# Altium integrated library Lattice ORCA Series 4.IntLib: 36 symbols (part 6 of 9)
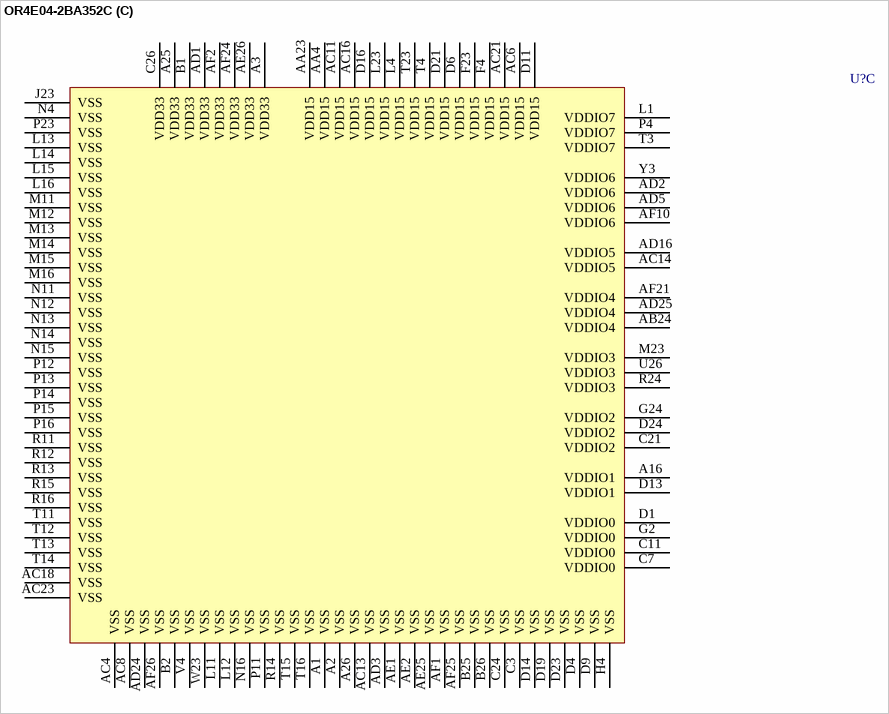
[diagram p123: symbol OR4E04-2BA352C]

## OR4E04-2BA352C
designator U?
ORCA Series 4 FPGA: 1.5 V, Commercial Grade, 466 I/Os.; Published: 21-May-2003; LatestRevisionDate: 13-Apr-2006; LatestRevisionNote: IPC-7351 Footprint Added.; DatasheetVersion: Aug-2003; PackageVersion: pkg_32, Aug-2005; PackageReference: BGA388; Publisher: Altium Limited; PackageDescription: 388-Ball Ball Grid Array (BGA388); ComponentLink1Description: Manufacturer Link; ComponentLink1URL: http://www.latticesemi.com/products/fpga/orca/orca4/index.cfm; ComponentLink2Description: Datasheet; ComponentLink2URL: http://www.latticesemi.com/account/_download.cfm?AMID=3970; ComponentLink3Description: Lattice Login; ComponentLink3URL: http://www.latticesemi.com/account/login.cfm
footprint BGA388 (BGA, 388-Leads, Body 35x35mm, Pitch 1.27mm)
3D model OR4E04-BGA388 (388-Ball Ball Grid Array (BGA388))
part A pins: AA1 PL34C/VREF_6_02 (io), AA2 PL33D/D9 (io), AA3 PL36B/VREF_6_03 (io), AB1 PL35A/D12 (io), AB2 PL35B/D11 (io), AB4 PL39D/PLL_CK7C/HPPLL (io), AC1 PL39C/PLL_CK7T/HPPLL (io), AC2 PL36A/D13 (io), AC5 PB5D/D14 (io), AC7 PB7C/D17 (io), AC9 PB10D/D22 (io), AC10 PB14C/VREF_6_10 (io), AC12 PB18C/VREF_5_01 (io), AC15 PB24C (io), AC17 PB25D/VREF_5_04 (io), AC19 PB30D (io), AC20 PB32D (io), AC22 PB35D/VREF_4_03 (io), AD4 PB4A/VREF_6_05 (io), AD6 PB7D/D18 (io), AD7 PB9D/D21 (io), AD8 PB11D/D24 (io), AD9 PB13D/D27 (io), AD10 PB15C/D29 (io), AD11 PB17C (io), AD12 PB19C/PBCK0T (io), AD13 PB20D (io), AD14 PB21D/VREF_5_03 (io), AD15 PB23C/PBCK1T (io), AD17 PB26D/VREF_5_05 (io), AD18 PB28D/VREF_5_06 (io), AD19 PB31D (io), AD20 PB33C (io), AD21 PB35A (io), AD22 PB36D (io), AD23 PB37D/PLL_CK5C/PPLL (io), AE3 PB2A/DP2 (io), AE4 PB2D/PLL_CK6C/PPLL (io), AE5 PB5C/VREF_6_06 (io), AE6 PB6D/D16 (io), AE7 PB8D/D19 (io), AE8 PB10C/VREF_6_08 (io), AE9 PB12C/VREF_6_09 (io), AE10 PB13C/D26 (io), AE11 PB14D/D28 (io), AE12 PB16C/VREF_6_11 (io), AE13 PB17D (io), AE14 PB19D/PBCK0C (io), AE15 PB21C (io), AE16 PB22D (io), AE17 PB24D (io), AE18 PB26C (io), AE19 PB27D (io), AE20 PB30C (io), AE21 PB32C (io), AE22 PB33D/VREF_4_02 (io), AE23 PB35C (io), AE24 PB37C/PLL_CK5T/PPLL (io), AF3 PB2C/PLL_CK6T/PPLL (io), AF4 PB4B/DP3 (io), AF5 PB6C/D15 (io), AF6 PB8C/VREF_6_07 (io), AF7 PB9C/D20 (io), AF8 PB11C/D23 (io), AF9 PB12D/D25 (io), AF11 PB15D/D30 (io), AF12 PB16D/D31 (io), AF13 PB18D (io), AF14 PB20C/VREF_5_02 (io), AF15 PB22C (io), AF16 PB23D/PBCK1C (io), AF17 PB25C (io), AF18 PB27C (io), AF19 PB28C (io), AF20 PB31C/VREF_4_01 (io), AF22 PB34C (io), AF23 PB36C (io), E1 PL4C/D6 (io), E2 PL2D/PLL_CK0C/HPPLL (io), E3 PL4D/D5 (io), E4 PL2C/PLL_CK0T/HPPLL (io), F1 PL6C/D7 (io), F2 PL5D/HDC (io), F3 PL6D/TESTCFG (io), G1 PL7D/VREF_0_09 (io), G3 PL7C/A17/PPC_A31 (io), G4 PL5C/~{LDC} (io), H1 PL10D/~{INIT} (io), H2 PL8D/~{CS0} (io), H3 PL10C/DOUT (io), J1 PL11C/A16/PPC_A30 (io), J2 PL11D/VREF_0_10 (io), J3 PL12C/A14/PPC_A28 (io), J4 PL8C/CS1 (io), K1 PL13D/VREF_7_01 (io), K2 PL12D/A15/PPC_A29 (io), K3 PL14C/VREF_7_02 (io), K4 PL13C/D4 (io), L2 PL14D/RDY/~{BUSY}/RCLK (io), L3 PL17D/A11/PPC_A25 (io), M1 PL15C/A12/PPC_A26 (io), M2 PL15D/A13/PPC_A27 (io), M3 PL20D/PLCK0C (io), M4 PL19D/~{RD/MPI_STRB} (io), N1 PL19C/VREF_7_04 (io), N2 PL17C/VREF_7_03 (io), N3 PL21C/A9/PPC_A23 (io), P1 PL21D/A10/PPC_A24 (io), P2 PL20C/PLCK0T (io), P3 PL22C/VREF_7_05 (io), R1 PL24D/PLCK1C (io), R2 PL22D/A8/PPC_A22 (io), R3 PL25D/VREF_7_06 (io), R4 PL26D/A6/PPC_A20 (io), T1 PL25C/A7/PPC_A21 (io), T2 PL24C/PLCK1T (io), U1 PL27D/~{WR}/MPI_RW (io), U2 PL26C/A5/PPC_A19 (io), U3 PL28C/VREF_7_08 (io), U4 PL27C/VREF_7_07 (io), V1 PL29D/A3/PPC_A17 (io), V2 PL28D/A4/PPC_A18 (io), V3 PL30C/A0/PPC_A14 (io), W1 PL30D/A1/PPC_A15 (io), W2 PL29C/A2/PPC_A16 (io), W3 PL32C/VREF_6_01 (io), W4 PL31C/DP1 (io), Y1 PL32D/D8 (io), Y2 PL31D/DP0 (io), Y4 PL33C/D10 (io)
part B pins: A4 PT2C/PLL_CK1T/PPLL (io), A5 PT5C/D2 (io), A6 PT6C/D3 (io), A7 PT8C/TMS (io), A8 PT11B/VREF_0_02 (io), A9 PT11D/M2 (io), A10 PT12D/M0 (io), A11 PT14C/VREF_1_06 (io), A12 PT16D/VREF_1_05 (io), A13 PT18D/PTCK1C (io), A14 PT21C (io), A15 PT24C/VREF_1_03 (io), A17 PT26D (io), A18 PT27C (io), A19 PT28D (io), A20 PT31D (io), A21 PT32D (io), A22 PT34C (io), A23 PT36C (io), A24 PT37D/PLL_CK2C/PPLL (io), AA24 PR34D (io), AA25 PR35D (io), AA26 PR33C (io), AB3 PTEMP, AB23 PR36B (io), AB25 PR36A (io), AB26 PR35C/VREF_4_06 (io), AC3 LVDS_R (io), AC24 PR37A/VREF_4_05 (io), AC25 PR38B/PLL_CK4C/PLL2 (io), AC26 PR37B (io), AD26 PR38A/PLL_CK4T/PLL2 (io), B3 CCLK (io), B4 PT4C/TCK (io), B5 PT5D/D1 (io), B6 PT7C/A19/MPI_TSZ1 (io), B7 PT9D/VREF_0_03 (io), B8 PT11C/M3 (io), B9 PT12B/MPI_CLK (io), B10 PT13C/~{MPI_ACK} (io), B11 PT16C (io), B12 PT17D/PTCK0C (io), B13 PT19C/VREF_1_04 (io), B14 PT23C (io), B15 PT24D (io), B16 PT25D (io), B17 PT27B (io), B18 PT27D/VREF_1_01 (io), B19 PT29D (io), B20 PT32C (io), B21 PT33D (io), B22 PT35B (io), B23 PT37C/PLL_CK2T/PPLL (io), B24 PLL_VF, C1 ~{RESET} (in), C2 RD_DATA/TDO (out), C4 DONE (io), C5 ~{CFG_IRQ/MPI_IRQ} (out), C6 PT4D/TDI (io), C8 PT7D/A20/~{MPI_BDIP} (io), C9 PT11A/~{MPI_TEA} (io), C10 PT12A/A21/~{MPI_BURST} (io), C12 PT14D (io), C13 PT17C/PTCK0T (io), C14 PT18C/PTCK1T (io), C15 PT19D (io), C16 PT23D (io), C17 PT25C (io), C18 PT27A (io), C19 PT28C (io), C20 PT31C/VREF_2_08 (io), C22 PT34D/VREF_2_06 (io), C23 PT36D/VREF_2_05 (io), C25 PR3D/PLL_CK3C/PLL1 (io), D2 ~{RD_CFG} (in), D3 ~{PRGM} (in), D5 PT2D/PLL_CK1C/PPLL (io), D7 PT6D/A18/MPI_TSZ0 (io), D8 PT8D/D0 (io), D10 PT12C/M1 (io), D12 PT13D/~{MPI_RTRY} (io), D15 PT21D (io), D17 PT26C/VREF_1_02 (io), D18 PT29C (io), D20 PT33C/VREF_2_07 (io), D22 PT35A (io), D25 PR5B/VREF_2_03 (io), D26 PR4D (io), E23 PR4C (io), E24 PR3C/PLL_CK3T/PLL1 (io), E25 PR6A/VREF_2_02 (io), E26 PR6B (io), F24 PR5A (io), F25 PR9D (io), F26 PR7B (io), G23 PR7A (io), G25 PR11D/VREF_2_01 (io), G26 PR10D (io), H23 PR10C (io), H24 PR9C (io), H25 PR12C/VREF_3_08 (io), H26 PR12D (io), J24 PR11C (io), J25 PR14D (io), J26 PR13D (io), K23 PR14C/VREF_3_07 (io), K24 PR13C (io), K25 PR15A (io), K26 PR14B (io), L24 PR15B (io), L25 PR17D/VREF_3_06 (io), L26 PR16D (io), M24 PR16C (io), M25 PR19C/VREF_3_05 (io), M26 PR17C (io), N23 PR21D (io), N24 PR19D (io), N25 PR21C (io), N26 PR20C/PRCK0T (io), P24 PR20D/PRCK0C (io), P25 PR23D/PRCK1C (io), P26 PR22D/VREF_3_04 (io), R23 PR22C (io), R25 PR25C (io), R26 PR25D/VREF_3_03 (io), T24 PR23C/PRCK1T (io), T25 PR26B/VREF_3_02 (io), T26 PR25B (io), U23 PR26A (io), U24 PR25A (io), U25 PR28C/VREF_3_01 (io), V23 PR31D/VREF_4_08 (io), V24 PR28D (io), V25 PR29C (io), V26 PR29D (io), W24 PR30D (io), W25 PR31C (io), W26 PR30C (io), Y23 PR34C (io), Y24 PR32D (io), Y25 PR33D/VREF_4_07 (io), Y26 PR32C (io)
part C pins: A1 VSS (power), A2 VSS (power), A3 VDD33 (power), A16 VDDIO1 (power), A25 VDD33 (power), A26 VSS (power), AA4 VDD15 (power), AA23 VDD15 (power), AB24 VDDIO4 (power), AC4 VSS (power), AC6 VDD15 (power), AC8 VSS (power), AC11 VDD15 (power), AC13 VSS (power), AC14 VDDIO5 (power), AC16 VDD15 (power), AC18 VSS (power), AC21 VDD15 (power), AC23 VSS (power), AD1 VDD33 (power), AD2 VDDIO6 (power), AD3 VSS (power), AD5 VDDIO6 (power), AD16 VDDIO5 (power), AD24 VSS (power), AD25 VDDIO4 (power), AE1 VSS (power), AE2 VSS (power), AE25 VSS (power), AE26 VDD33 (power), AF1 VSS (power), AF2 VDD33 (power), AF10 VDDIO6 (power), AF21 VDDIO4 (power), AF24 VDD33 (power), AF25 VSS (power), AF26 VSS (power), B1 VDD33 (power), B2 VSS (power), B25 VSS (power), B26 VSS (power), C3 VSS (power), C7 VDDIO0 (power), C11 VDDIO0 (power), C21 VDDIO2 (power), C24 VSS (power), C26 VDD33 (power), D1 VDDIO0 (power), D4 VSS (power), D6 VDD15 (power), D9 VSS (power), D11 VDD15 (power), D13 VDDIO1 (power), D14 VSS (power), D16 VDD15 (power), D19 VSS (power), D21 VDD15 (power), D23 VSS (power), D24 VDDIO2 (power), F4 VDD15 (power), F23 VDD15 (power), G2 VDDIO0 (power), G24 VDDIO2 (power), H4 VSS (power), J23 VSS (power), L1 VDDIO7 (power), L4 VDD15 (power), L11 VSS (power), L12 VSS (power), L13 VSS (power), L14 VSS (power), L15 VSS (power), L16 VSS (power), L23 VDD15 (power), M11 VSS (power), M12 VSS (power), M13 VSS (power), M14 VSS (power), M15 VSS (power), M16 VSS (power), M23 VDDIO3 (power), N4 VSS (power), N11 VSS (power), N12 VSS (power), N13 VSS (power), N14 VSS (power), N15 VSS (power), N16 VSS (power), P4 VDDIO7 (power), P11 VSS (power), P12 VSS (power), P13 VSS (power), P14 VSS (power), P15 VSS (power), P16 VSS (power), P23 VSS (power), R11 VSS (power), R12 VSS (power), R13 VSS (power), R14 VSS (power), R15 VSS (power), R16 VSS (power), R24 VDDIO3 (power), T3 VDDIO7 (power), T4 VDD15 (power), T11 VSS (power), T12 VSS (power), T13 VSS (power), T14 VSS (power), T15 VSS (power), T16 VSS (power), T23 VDD15 (power), U26 VDDIO3 (power), V4 VSS (power), W23 VSS (power), Y3 VDDIO6 (power)

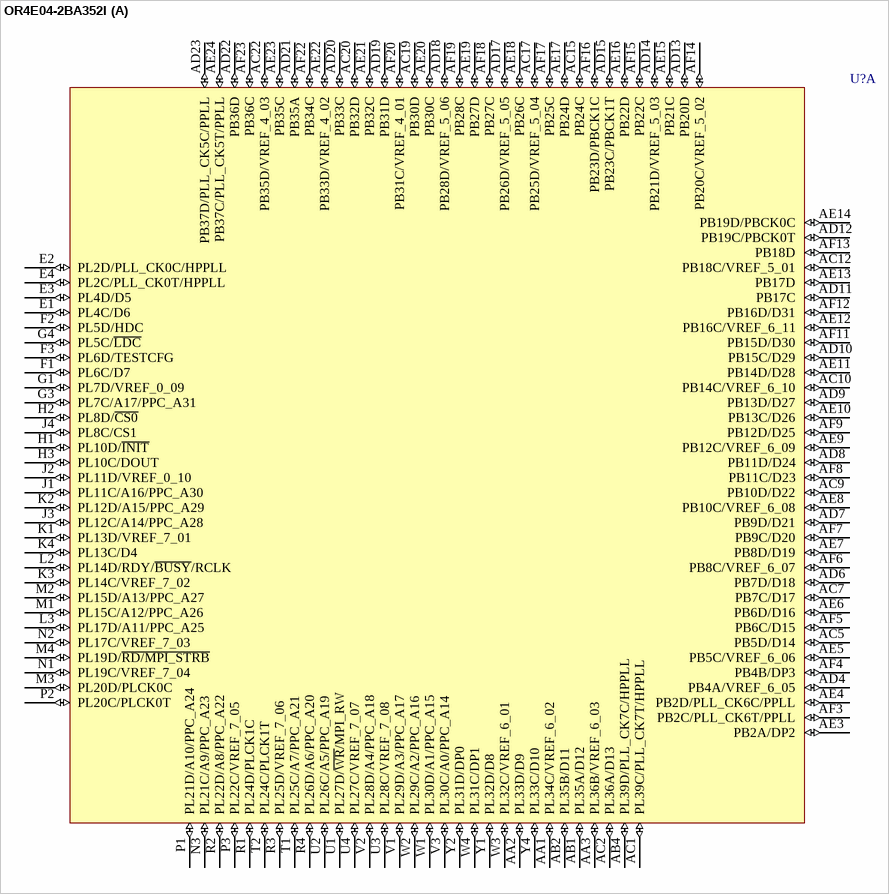
[diagram p69: symbol OR4E04-2BA352I]

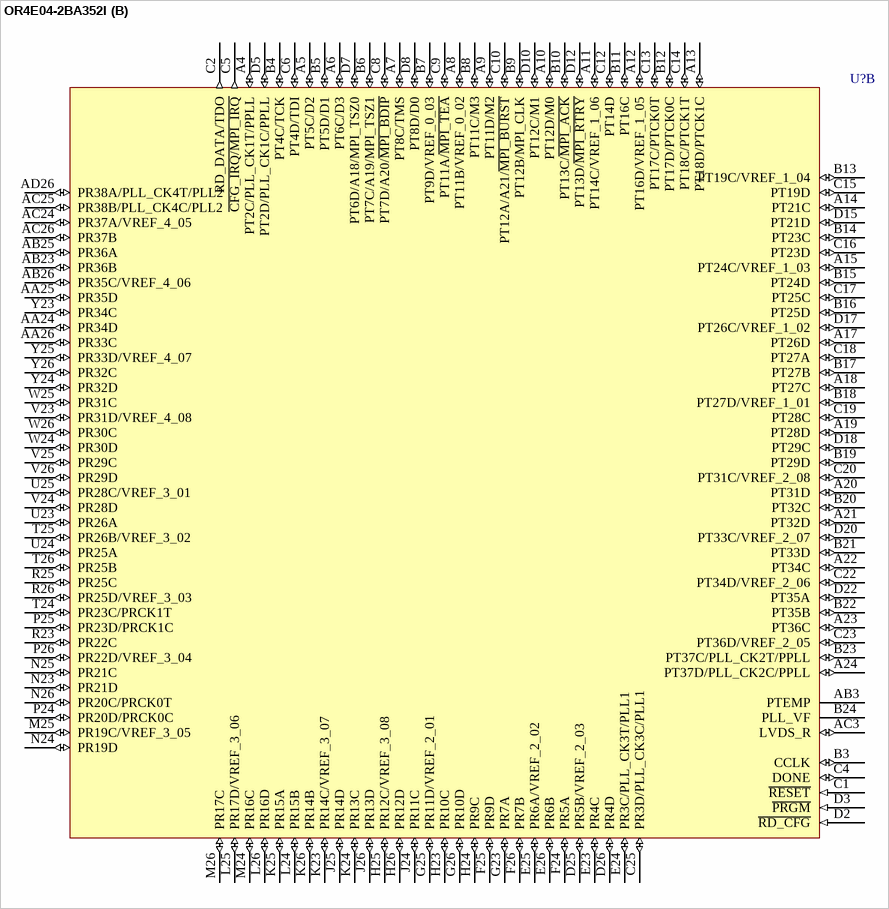
[diagram p70: symbol OR4E04-2BA352I]

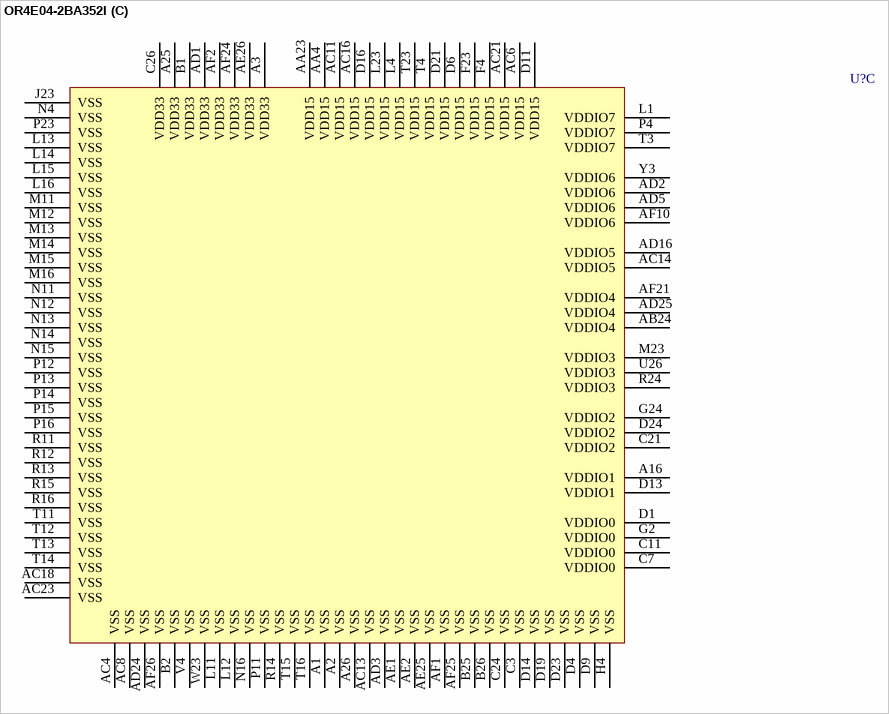
[diagram p71: symbol OR4E04-2BA352I]

## OR4E04-2BA352I
designator U?
ORCA Series 4 FPGA: 1.5 V, Industrial Grade, 466 I/Os.; Published: 21-May-2003; LatestRevisionDate: 13-Apr-2006; LatestRevisionNote: IPC-7351 Footprint Added.; DatasheetVersion: Aug-2003; PackageVersion: pkg_32, Aug-2005; PackageReference: BGA388; Publisher: Altium Limited; PackageDescription: 388-Ball Ball Grid Array (BGA388); ComponentLink1Description: Manufacturer Link; ComponentLink1URL: http://www.latticesemi.com/products/fpga/orca/orca4/index.cfm; ComponentLink2Description: Datasheet; ComponentLink2URL: http://www.latticesemi.com/account/_download.cfm?AMID=3970; ComponentLink3Description: Lattice Login; ComponentLink3URL: http://www.latticesemi.com/account/login.cfm
footprint BGA388 (BGA, 388-Leads, Body 35x35mm, Pitch 1.27mm)
3D model OR4E04-BGA388 (388-Ball Ball Grid Array (BGA388))
part A pins: AA1 PL34C/VREF_6_02 (io), AA2 PL33D/D9 (io), AA3 PL36B/VREF_6_03 (io), AB1 PL35A/D12 (io), AB2 PL35B/D11 (io), AB4 PL39D/PLL_CK7C/HPPLL (io), AC1 PL39C/PLL_CK7T/HPPLL (io), AC2 PL36A/D13 (io), AC5 PB5D/D14 (io), AC7 PB7C/D17 (io), AC9 PB10D/D22 (io), AC10 PB14C/VREF_6_10 (io), AC12 PB18C/VREF_5_01 (io), AC15 PB24C (io), AC17 PB25D/VREF_5_04 (io), AC19 PB30D (io), AC20 PB32D (io), AC22 PB35D/VREF_4_03 (io), AD4 PB4A/VREF_6_05 (io), AD6 PB7D/D18 (io), AD7 PB9D/D21 (io), AD8 PB11D/D24 (io), AD9 PB13D/D27 (io), AD10 PB15C/D29 (io), AD11 PB17C (io), AD12 PB19C/PBCK0T (io), AD13 PB20D (io), AD14 PB21D/VREF_5_03 (io), AD15 PB23C/PBCK1T (io), AD17 PB26D/VREF_5_05 (io), AD18 PB28D/VREF_5_06 (io), AD19 PB31D (io), AD20 PB33C (io), AD21 PB35A (io), AD22 PB36D (io), AD23 PB37D/PLL_CK5C/PPLL (io), AE3 PB2A/DP2 (io), AE4 PB2D/PLL_CK6C/PPLL (io), AE5 PB5C/VREF_6_06 (io), AE6 PB6D/D16 (io), AE7 PB8D/D19 (io), AE8 PB10C/VREF_6_08 (io), AE9 PB12C/VREF_6_09 (io), AE10 PB13C/D26 (io), AE11 PB14D/D28 (io), AE12 PB16C/VREF_6_11 (io), AE13 PB17D (io), AE14 PB19D/PBCK0C (io), AE15 PB21C (io), AE16 PB22D (io), AE17 PB24D (io), AE18 PB26C (io), AE19 PB27D (io), AE20 PB30C (io), AE21 PB32C (io), AE22 PB33D/VREF_4_02 (io), AE23 PB35C (io), AE24 PB37C/PLL_CK5T/PPLL (io), AF3 PB2C/PLL_CK6T/PPLL (io), AF4 PB4B/DP3 (io), AF5 PB6C/D15 (io), AF6 PB8C/VREF_6_07 (io), AF7 PB9C/D20 (io), AF8 PB11C/D23 (io), AF9 PB12D/D25 (io), AF11 PB15D/D30 (io), AF12 PB16D/D31 (io), AF13 PB18D (io), AF14 PB20C/VREF_5_02 (io), AF15 PB22C (io), AF16 PB23D/PBCK1C (io), AF17 PB25C (io), AF18 PB27C (io), AF19 PB28C (io), AF20 PB31C/VREF_4_01 (io), AF22 PB34C (io), AF23 PB36C (io), E1 PL4C/D6 (io), E2 PL2D/PLL_CK0C/HPPLL (io), E3 PL4D/D5 (io), E4 PL2C/PLL_CK0T/HPPLL (io), F1 PL6C/D7 (io), F2 PL5D/HDC (io), F3 PL6D/TESTCFG (io), G1 PL7D/VREF_0_09 (io), G3 PL7C/A17/PPC_A31 (io), G4 PL5C/~{LDC} (io), H1 PL10D/~{INIT} (io), H2 PL8D/~{CS0} (io), H3 PL10C/DOUT (io), J1 PL11C/A16/PPC_A30 (io), J2 PL11D/VREF_0_10 (io), J3 PL12C/A14/PPC_A28 (io), J4 PL8C/CS1 (io), K1 PL13D/VREF_7_01 (io), K2 PL12D/A15/PPC_A29 (io), K3 PL14C/VREF_7_02 (io), K4 PL13C/D4 (io), L2 PL14D/RDY/~{BUSY}/RCLK (io), L3 PL17D/A11/PPC_A25 (io), M1 PL15C/A12/PPC_A26 (io), M2 PL15D/A13/PPC_A27 (io), M3 PL20D/PLCK0C (io), M4 PL19D/~{RD/MPI_STRB} (io), N1 PL19C/VREF_7_04 (io), N2 PL17C/VREF_7_03 (io), N3 PL21C/A9/PPC_A23 (io), P1 PL21D/A10/PPC_A24 (io), P2 PL20C/PLCK0T (io), P3 PL22C/VREF_7_05 (io), R1 PL24D/PLCK1C (io), R2 PL22D/A8/PPC_A22 (io), R3 PL25D/VREF_7_06 (io), R4 PL26D/A6/PPC_A20 (io), T1 PL25C/A7/PPC_A21 (io), T2 PL24C/PLCK1T (io), U1 PL27D/~{WR}/MPI_RW (io), U2 PL26C/A5/PPC_A19 (io), U3 PL28C/VREF_7_08 (io), U4 PL27C/VREF_7_07 (io), V1 PL29D/A3/PPC_A17 (io), V2 PL28D/A4/PPC_A18 (io), V3 PL30C/A0/PPC_A14 (io), W1 PL30D/A1/PPC_A15 (io), W2 PL29C/A2/PPC_A16 (io), W3 PL32C/VREF_6_01 (io), W4 PL31C/DP1 (io), Y1 PL32D/D8 (io), Y2 PL31D/DP0 (io), Y4 PL33C/D10 (io)
part B pins: A4 PT2C/PLL_CK1T/PPLL (io), A5 PT5C/D2 (io), A6 PT6C/D3 (io), A7 PT8C/TMS (io), A8 PT11B/VREF_0_02 (io), A9 PT11D/M2 (io), A10 PT12D/M0 (io), A11 PT14C/VREF_1_06 (io), A12 PT16D/VREF_1_05 (io), A13 PT18D/PTCK1C (io), A14 PT21C (io), A15 PT24C/VREF_1_03 (io), A17 PT26D (io), A18 PT27C (io), A19 PT28D (io), A20 PT31D (io), A21 PT32D (io), A22 PT34C (io), A23 PT36C (io), A24 PT37D/PLL_CK2C/PPLL (io), AA24 PR34D (io), AA25 PR35D (io), AA26 PR33C (io), AB3 PTEMP, AB23 PR36B (io), AB25 PR36A (io), AB26 PR35C/VREF_4_06 (io), AC3 LVDS_R (io), AC24 PR37A/VREF_4_05 (io), AC25 PR38B/PLL_CK4C/PLL2 (io), AC26 PR37B (io), AD26 PR38A/PLL_CK4T/PLL2 (io), B3 CCLK (io), B4 PT4C/TCK (io), B5 PT5D/D1 (io), B6 PT7C/A19/MPI_TSZ1 (io), B7 PT9D/VREF_0_03 (io), B8 PT11C/M3 (io), B9 PT12B/MPI_CLK (io), B10 PT13C/~{MPI_ACK} (io), B11 PT16C (io), B12 PT17D/PTCK0C (io), B13 PT19C/VREF_1_04 (io), B14 PT23C (io), B15 PT24D (io), B16 PT25D (io), B17 PT27B (io), B18 PT27D/VREF_1_01 (io), B19 PT29D (io), B20 PT32C (io), B21 PT33D (io), B22 PT35B (io), B23 PT37C/PLL_CK2T/PPLL (io), B24 PLL_VF, C1 ~{RESET} (in), C2 RD_DATA/TDO (out), C4 DONE (io), C5 ~{CFG_IRQ/MPI_IRQ} (out), C6 PT4D/TDI (io), C8 PT7D/A20/~{MPI_BDIP} (io), C9 PT11A/~{MPI_TEA} (io), C10 PT12A/A21/~{MPI_BURST} (io), C12 PT14D (io), C13 PT17C/PTCK0T (io), C14 PT18C/PTCK1T (io), C15 PT19D (io), C16 PT23D (io), C17 PT25C (io), C18 PT27A (io), C19 PT28C (io), C20 PT31C/VREF_2_08 (io), C22 PT34D/VREF_2_06 (io), C23 PT36D/VREF_2_05 (io), C25 PR3D/PLL_CK3C/PLL1 (io), D2 ~{RD_CFG} (in), D3 ~{PRGM} (in), D5 PT2D/PLL_CK1C/PPLL (io), D7 PT6D/A18/MPI_TSZ0 (io), D8 PT8D/D0 (io), D10 PT12C/M1 (io), D12 PT13D/~{MPI_RTRY} (io), D15 PT21D (io), D17 PT26C/VREF_1_02 (io), D18 PT29C (io), D20 PT33C/VREF_2_07 (io), D22 PT35A (io), D25 PR5B/VREF_2_03 (io), D26 PR4D (io), E23 PR4C (io), E24 PR3C/PLL_CK3T/PLL1 (io), E25 PR6A/VREF_2_02 (io), E26 PR6B (io), F24 PR5A (io), F25 PR9D (io), F26 PR7B (io), G23 PR7A (io), G25 PR11D/VREF_2_01 (io), G26 PR10D (io), H23 PR10C (io), H24 PR9C (io), H25 PR12C/VREF_3_08 (io), H26 PR12D (io), J24 PR11C (io), J25 PR14D (io), J26 PR13D (io), K23 PR14C/VREF_3_07 (io), K24 PR13C (io), K25 PR15A (io), K26 PR14B (io), L24 PR15B (io), L25 PR17D/VREF_3_06 (io), L26 PR16D (io), M24 PR16C (io), M25 PR19C/VREF_3_05 (io), M26 PR17C (io), N23 PR21D (io), N24 PR19D (io), N25 PR21C (io), N26 PR20C/PRCK0T (io), P24 PR20D/PRCK0C (io), P25 PR23D/PRCK1C (io), P26 PR22D/VREF_3_04 (io), R23 PR22C (io), R25 PR25C (io), R26 PR25D/VREF_3_03 (io), T24 PR23C/PRCK1T (io), T25 PR26B/VREF_3_02 (io), T26 PR25B (io), U23 PR26A (io), U24 PR25A (io), U25 PR28C/VREF_3_01 (io), V23 PR31D/VREF_4_08 (io), V24 PR28D (io), V25 PR29C (io), V26 PR29D (io), W24 PR30D (io), W25 PR31C (io), W26 PR30C (io), Y23 PR34C (io), Y24 PR32D (io), Y25 PR33D/VREF_4_07 (io), Y26 PR32C (io)
part C pins: A1 VSS (power), A2 VSS (power), A3 VDD33 (power), A16 VDDIO1 (power), A25 VDD33 (power), A26 VSS (power), AA4 VDD15 (power), AA23 VDD15 (power), AB24 VDDIO4 (power), AC4 VSS (power), AC6 VDD15 (power), AC8 VSS (power), AC11 VDD15 (power), AC13 VSS (power), AC14 VDDIO5 (power), AC16 VDD15 (power), AC18 VSS (power), AC21 VDD15 (power), AC23 VSS (power), AD1 VDD33 (power), AD2 VDDIO6 (power), AD3 VSS (power), AD5 VDDIO6 (power), AD16 VDDIO5 (power), AD24 VSS (power), AD25 VDDIO4 (power), AE1 VSS (power), AE2 VSS (power), AE25 VSS (power), AE26 VDD33 (power), AF1 VSS (power), AF2 VDD33 (power), AF10 VDDIO6 (power), AF21 VDDIO4 (power), AF24 VDD33 (power), AF25 VSS (power), AF26 VSS (power), B1 VDD33 (power), B2 VSS (power), B25 VSS (power), B26 VSS (power), C3 VSS (power), C7 VDDIO0 (power), C11 VDDIO0 (power), C21 VDDIO2 (power), C24 VSS (power), C26 VDD33 (power), D1 VDDIO0 (power), D4 VSS (power), D6 VDD15 (power), D9 VSS (power), D11 VDD15 (power), D13 VDDIO1 (power), D14 VSS (power), D16 VDD15 (power), D19 VSS (power), D21 VDD15 (power), D23 VSS (power), D24 VDDIO2 (power), F4 VDD15 (power), F23 VDD15 (power), G2 VDDIO0 (power), G24 VDDIO2 (power), H4 VSS (power), J23 VSS (power), L1 VDDIO7 (power), L4 VDD15 (power), L11 VSS (power), L12 VSS (power), L13 VSS (power), L14 VSS (power), L15 VSS (power), L16 VSS (power), L23 VDD15 (power), M11 VSS (power), M12 VSS (power), M13 VSS (power), M14 VSS (power), M15 VSS (power), M16 VSS (power), M23 VDDIO3 (power), N4 VSS (power), N11 VSS (power), N12 VSS (power), N13 VSS (power), N14 VSS (power), N15 VSS (power), N16 VSS (power), P4 VDDIO7 (power), P11 VSS (power), P12 VSS (power), P13 VSS (power), P14 VSS (power), P15 VSS (power), P16 VSS (power), P23 VSS (power), R11 VSS (power), R12 VSS (power), R13 VSS (power), R14 VSS (power), R15 VSS (power), R16 VSS (power), R24 VDDIO3 (power), T3 VDDIO7 (power), T4 VDD15 (power), T11 VSS (power), T12 VSS (power), T13 VSS (power), T14 VSS (power), T15 VSS (power), T16 VSS (power), T23 VDD15 (power), U26 VDDIO3 (power), V4 VSS (power), W23 VSS (power), Y3 VDDIO6 (power)

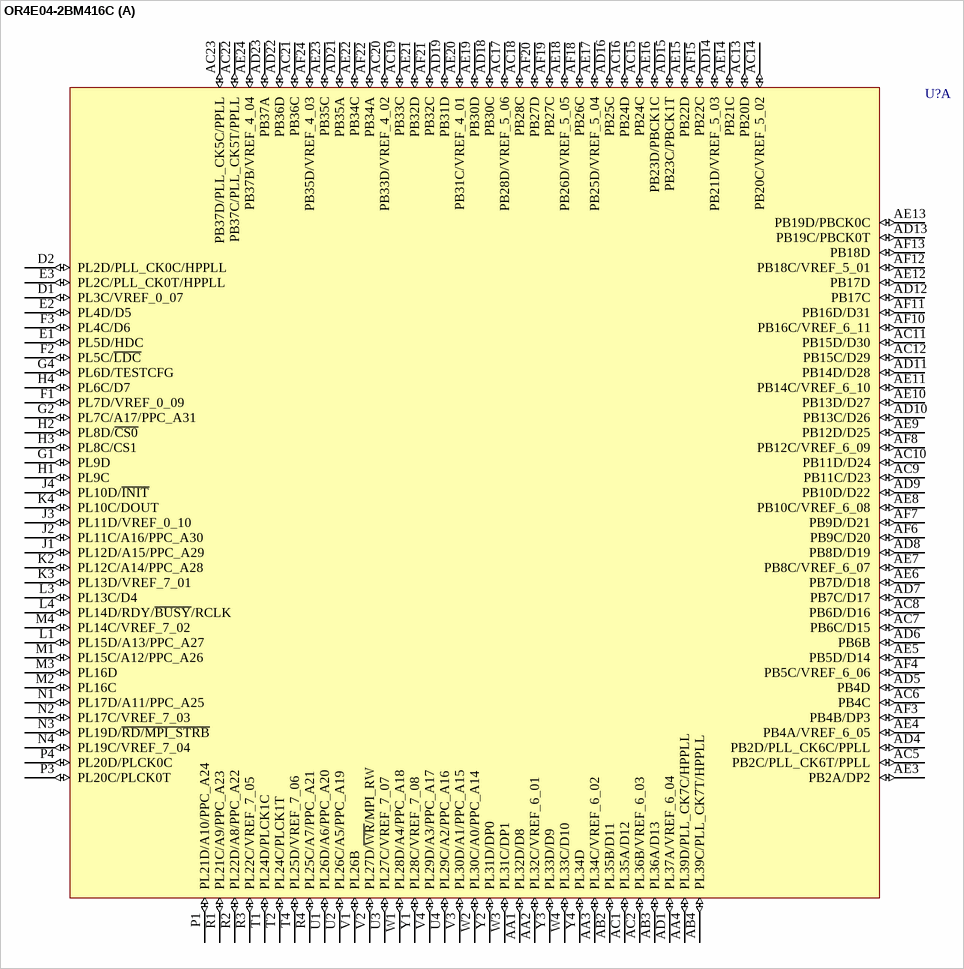
[diagram p72: symbol OR4E04-2BM416C]

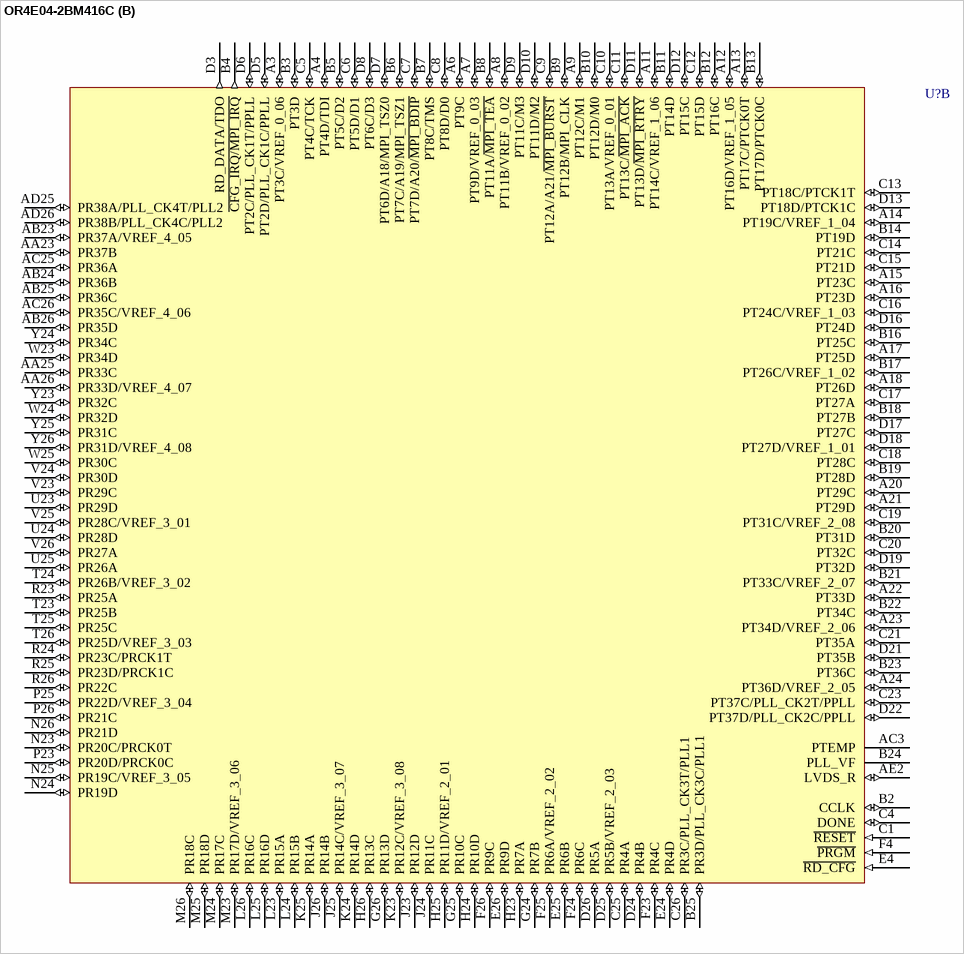
[diagram p73: symbol OR4E04-2BM416C]

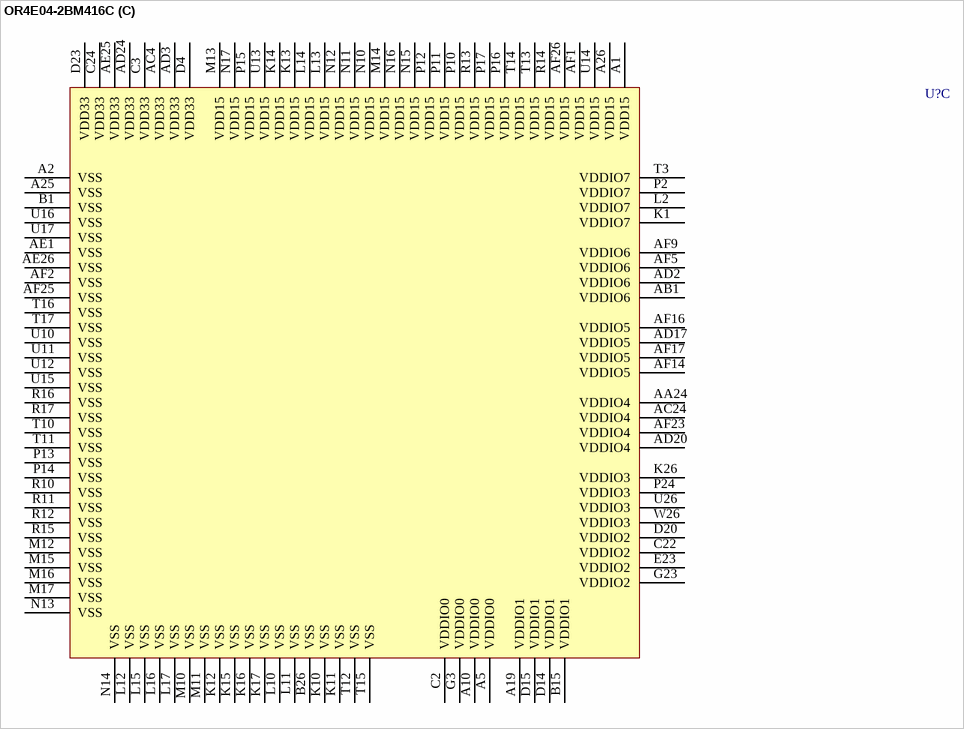
[diagram p74: symbol OR4E04-2BM416C]

## OR4E04-2BM416C
designator U?
ORCA Series 4 FPGA: 1.5 V, Commercial Grade, 466 I/Os.; Published: 21-May-2003; LatestRevisionDate: 13-Apr-2006; LatestRevisionNote: IPC-7351 Footprint Added.; DatasheetVersion: Aug-2003; PackageVersion: pkg_32, Aug-2005; PackageReference: fpBGA416; Publisher: Altium Limited; PackageDescription: 416-Ball Fine Pitch Ball Grid Array (fpBGA416); ComponentLink1Description: Manufacturer Link; ComponentLink1URL: http://www.latticesemi.com/products/fpga/orca/orca4/index.cfm; ComponentLink2Description: Datasheet; ComponentLink2URL: http://www.latticesemi.com/account/_download.cfm?AMID=3970; ComponentLink3Description: Lattice Login; ComponentLink3URL: http://www.latticesemi.com/account/login.cfm
footprint fpBGA416 (BGA, 416-Leads, Body 27x27mm, Pitch 1mm)
3D model OR4E04-fpBGA416 (416-Ball Fine Pitch Ball Grid Array (fpBGA416))
part A pins: AA1 PL32D/D8 (io), AA2 PL32C/VREF_6_01 (io), AA3 PL34C/VREF_6_02 (io), AA4 PL39D/PLL_CK7C/HPPLL (io), AB2 PL35B/D11 (io), AB3 PL36A/D13 (io), AB4 PL39C/PLL_CK7T/HPPLL (io), AC1 PL35A/D12 (io), AC2 PL36B/VREF_6_03 (io), AC5 PB2C/PLL_CK6T/PPLL (io), AC6 PB4C (io), AC7 PB6C/D15 (io), AC8 PB6D/D16 (io), AC9 PB11C/D23 (io), AC10 PB11D/D24 (io), AC11 PB15D/D30 (io), AC12 PB15C/D29 (io), AC13 PB20D (io), AC14 PB20C/VREF_5_02 (io), AC15 PB24C (io), AC16 PB24D (io), AC17 PB28D/VREF_5_06 (io), AC18 PB28C (io), AC19 PB33C (io), AC20 PB33D/VREF_4_02 (io), AC21 PB36C (io), AC22 PB37C/PLL_CK5T/PPLL (io), AC23 PB37D/PLL_CK5C/PPLL (io), AD1 PL37A/VREF_6_04 (io), AD4 PB2D/PLL_CK6C/PPLL (io), AD5 PB4D (io), AD6 PB6B (io), AD7 PB7C/D17 (io), AD8 PB8D/D19 (io), AD9 PB10D/D22 (io), AD10 PB13C/D26 (io), AD11 PB14D/D28 (io), AD12 PB17C (io), AD13 PB19C/PBCK0T (io), AD14 PB21D/VREF_5_03 (io), AD15 PB23C/PBCK1T (io), AD16 PB25C (io), AD18 PB30C (io), AD19 PB31D (io), AD21 PB35A (io), AD22 PB36D (io), AD23 PB37A (io), AE3 PB2A/DP2 (io), AE4 PB4A/VREF_6_05 (io), AE5 PB5D/D14 (io), AE6 PB7D/D18 (io), AE7 PB8C/VREF_6_07 (io), AE8 PB10C/VREF_6_08 (io), AE9 PB12D/D25 (io), AE10 PB13D/D27 (io), AE11 PB14C/VREF_6_10 (io), AE12 PB17D (io), AE13 PB19D/PBCK0C (io), AE14 PB21C (io), AE15 PB22D (io), AE16 PB23D/PBCK1C (io), AE17 PB25D/VREF_5_04 (io), AE18 PB26D/VREF_5_05 (io), AE19 PB30D (io), AE20 PB31C/VREF_4_01 (io), AE21 PB32D (io), AE22 PB34C (io), AE23 PB35C (io), AE24 PB37B/VREF_4_04 (io), AF3 PB4B/DP3 (io), AF4 PB5C/VREF_6_06 (io), AF6 PB9C/D20 (io), AF7 PB9D/D21 (io), AF8 PB12C/VREF_6_09 (io), AF10 PB16C/VREF_6_11 (io), AF11 PB16D/D31 (io), AF12 PB18C/VREF_5_01 (io), AF13 PB18D (io), AF15 PB22C (io), AF18 PB26C (io), AF19 PB27C (io), AF20 PB27D (io), AF21 PB32C (io), AF22 PB34A (io), AF24 PB35D/VREF_4_03 (io), D1 PL3C/VREF_0_07 (io), D2 PL2D/PLL_CK0C/HPPLL (io), E1 PL5D/HDC (io), E2 PL4D/D5 (io), E3 PL2C/PLL_CK0T/HPPLL (io), F1 PL7D/VREF_0_09 (io), F2 PL5C/~{LDC} (io), F3 PL4C/D6 (io), G1 PL9D (io), G2 PL7C/A17/PPC_A31 (io), G4 PL6D/TESTCFG (io), H1 PL9C (io), H2 PL8D/~{CS0} (io), H3 PL8C/CS1 (io), H4 PL6C/D7 (io), J1 PL12D/A15/PPC_A29 (io), J2 PL11C/A16/PPC_A30 (io), J3 PL11D/VREF_0_10 (io), J4 PL10D/~{INIT} (io), K2 PL12C/A14/PPC_A28 (io), K3 PL13D/VREF_7_01 (io), K4 PL10C/DOUT (io), L1 PL15D/A13/PPC_A27 (io), L3 PL13C/D4 (io), L4 PL14D/RDY/~{BUSY}/RCLK (io), M1 PL15C/A12/PPC_A26 (io), M2 PL16C (io), M3 PL16D (io), M4 PL14C/VREF_7_02 (io), N1 PL17D/A11/PPC_A25 (io), N2 PL17C/VREF_7_03 (io), N3 PL19D/~{RD/MPI_STRB} (io), N4 PL19C/VREF_7_04 (io), P1 PL21D/A10/PPC_A24 (io), P3 PL20C/PLCK0T (io), P4 PL20D/PLCK0C (io), R1 PL21C/A9/PPC_A23 (io), R2 PL22D/A8/PPC_A22 (io), R3 PL22C/VREF_7_05 (io), R4 PL25C/A7/PPC_A21 (io), T1 PL24D/PLCK1C (io), T2 PL24C/PLCK1T (io), T4 PL25D/VREF_7_06 (io), U1 PL26D/A6/PPC_A20 (io), U2 PL26C/A5/PPC_A19 (io), U3 PL27C/VREF_7_07 (io), U4 PL29C/A2/PPC_A16 (io), V1 PL26B (io), V2 PL27D/~{WR}/MPI_RW (io), V3 PL30D/A1/PPC_A15 (io), V4 PL29D/A3/PPC_A17 (io), W1 PL28D/A4/PPC_A18 (io), W2 PL30C/A0/PPC_A14 (io), W3 PL31C/DP1 (io), W4 PL33C/D10 (io), Y1 PL28C/VREF_7_08 (io), Y2 PL31D/DP0 (io), Y3 PL33D/D9 (io), Y4 PL34D (io)
part B pins: A3 PT3C/VREF_0_06 (io), A4 PT4D/TDI (io), A6 PT9C (io), A7 PT9D/VREF_0_03 (io), A8 PT11B/VREF_0_02 (io), A9 PT12C/M1 (io), A11 PT14C/VREF_1_06 (io), A12 PT16D/VREF_1_05 (io), A13 PT17C/PTCK0T (io), A14 PT19C/VREF_1_04 (io), A15 PT23C (io), A16 PT23D (io), A17 PT25D (io), A18 PT26D (io), A20 PT29C (io), A21 PT29D (io), A22 PT33D (io), A23 PT34D/VREF_2_06 (io), A24 PT36D/VREF_2_05 (io), AA23 PR37B (io), AA25 PR33C (io), AA26 PR33D/VREF_4_07 (io), AB23 PR37A/VREF_4_05 (io), AB24 PR36B (io), AB25 PR36C (io), AB26 PR35D (io), AC3 PTEMP, AC25 PR36A (io), AC26 PR35C/VREF_4_06 (io), AD25 PR38A/PLL_CK4T/PLL2 (io), AD26 PR38B/PLL_CK4C/PLL2 (io), AE2 LVDS_R (io), B2 CCLK (io), B3 PT3D (io), B4 ~{CFG_IRQ/MPI_IRQ} (out), B5 PT5C/D2 (io), B6 PT7C/A19/MPI_TSZ1 (io), B7 PT8C/TMS (io), B8 PT11A/~{MPI_TEA} (io), B9 PT12B/MPI_CLK (io), B10 PT12D/M0 (io), B11 PT14D (io), B12 PT16C (io), B13 PT17D/PTCK0C (io), B14 PT19D (io), B16 PT25C (io), B17 PT26C/VREF_1_02 (io), B18 PT27B (io), B19 PT28D (io), B20 PT31D (io), B21 PT33C/VREF_2_07 (io), B22 PT34C (io), B23 PT36C (io), B24 PLL_VF, B25 PR3D/PLL_CK3C/PLL1 (io), C1 ~{RESET} (in), C4 DONE (io), C5 PT4C/TCK (io), C6 PT5D/D1 (io), C7 PT7D/A20/~{MPI_BDIP} (io), C8 PT8D/D0 (io), C9 PT12A/A21/~{MPI_BURST} (io), C10 PT13A/VREF_0_01 (io), C11 PT13C/~{MPI_ACK} (io), C12 PT15D (io), C13 PT18C/PTCK1T (io), C14 PT21C (io), C15 PT21D (io), C16 PT24C/VREF_1_03 (io), C17 PT27A (io), C18 PT28C (io), C19 PT31C/VREF_2_08 (io), C20 PT32C (io), C21 PT35A (io), C23 PT37C/PLL_CK2T/PPLL (io), C25 PR4A (io), C26 PR3C/PLL_CK3T/PLL1 (io), D3 RD_DATA/TDO (out), D5 PT2D/PLL_CK1C/PPLL (io), D6 PT2C/PLL_CK1T/PPLL (io), D7 PT6D/A18/MPI_TSZ0 (io), D8 PT6C/D3 (io), D9 PT11C/M3 (io), D10 PT11D/M2 (io), D11 PT13D/~{MPI_RTRY} (io), D12 PT15C (io), D13 PT18D/PTCK1C (io), D16 PT24D (io), D17 PT27C (io), D18 PT27D/VREF_1_01 (io), D19 PT32D (io), D21 PT35B (io), D22 PT37D/PLL_CK2C/PPLL (io), D24 PR4B (io), D25 PR5B/VREF_2_03 (io), D26 PR5A (io), E4 ~{RD_CFG} (in), E24 PR4D (io), E25 PR6B (io), E26 PR9D (io), F4 ~{PRGM} (in), F23 PR4C (io), F24 PR6C (io), F25 PR6A/VREF_2_02 (io), F26 PR9C (io), G24 PR7B (io), G25 PR10C (io), G26 PR13D (io), H23 PR7A (io), H24 PR10D (io), H25 PR11D/VREF_2_01 (io), H26 PR13C (io), J23 PR12D (io), J24 PR11C (io), J25 PR14C/VREF_3_07 (io), J26 PR14B (io), K23 PR12C/VREF_3_08 (io), K24 PR14D (io), K25 PR14A (io), L23 PR15A (io), L24 PR15B (io), L25 PR16D (io), L26 PR16C (io), M23 PR17D/VREF_3_06 (io), M24 PR17C (io), M25 PR18D (io), M26 PR18C (io), N23 PR20C/PRCK0T (io), N24 PR19D (io), N25 PR19C/VREF_3_05 (io), N26 PR21D (io), P23 PR20D/PRCK0C (io), P25 PR22D/VREF_3_04 (io), P26 PR21C (io), R23 PR25A (io), R24 PR23C/PRCK1T (io), R25 PR23D/PRCK1C (io), R26 PR22C (io), T23 PR25B (io), T24 PR26B/VREF_3_02 (io), T25 PR25C (io), T26 PR25D/VREF_3_03 (io), U23 PR29D (io), U24 PR28D (io), U25 PR26A (io), V23 PR29C (io), V24 PR30D (io), V25 PR28C/VREF_3_01 (io), V26 PR27A (io), W23 PR34D (io), W24 PR32D (io), W25 PR30C (io), Y23 PR32C (io), Y24 PR34C (io), Y25 PR31C (io), Y26 PR31D/VREF_4_08 (io)
part C pins: A1 VDD15 (power), A2 VSS (power), A5 VDDIO0 (power), A10 VDDIO0 (power), A19 VDDIO1 (power), A25 VSS (power), A26 VDD15 (power), AA24 VDDIO4 (power), AB1 VDDIO6 (power), AC4 VDD33 (power), AC24 VDDIO4 (power), AD2 VDDIO6 (power), AD3 VDD33 (power), AD17 VDDIO5 (power), AD20 VDDIO4 (power), AD24 VDD33 (power), AE1 VSS (power), AE25 VDD33 (power), AE26 VSS (power), AF1 VDD15 (power), AF2 VSS (power), AF5 VDDIO6 (power), AF9 VDDIO6 (power), AF14 VDDIO5 (power), AF16 VDDIO5 (power), AF17 VDDIO5 (power), AF23 VDDIO4 (power), AF25 VSS (power), AF26 VDD15 (power), B1 VSS (power), B15 VDDIO1 (power), B26 VSS (power), C2 VDDIO0 (power), C3 VDD33 (power), C22 VDDIO2 (power), C24 VDD33 (power), D4 VDD33 (power), D14 VDDIO1 (power), D15 VDDIO1 (power), D20 VDDIO2 (power), D23 VDD33 (power), E23 VDDIO2 (power), G3 VDDIO0 (power), G23 VDDIO2 (power), K1 VDDIO7 (power), K10 VSS (power), K11 VSS (power), K12 VSS (power), K13 VDD15 (power), K14 VDD15 (power), K15 VSS (power), K16 VSS (power), K17 VSS (power), K26 VDDIO3 (power), L2 VDDIO7 (power), L10 VSS (power), L11 VSS (power), L12 VSS (power), L13 VDD15 (power), L14 VDD15 (power), L15 VSS (power), L16 VSS (power), L17 VSS (power), M10 VSS (power), M11 VSS (power), M12 VSS (power), M13 VDD15 (power), M14 VDD15 (power), M15 VSS (power), M16 VSS (power), M17 VSS (power), N10 VDD15 (power), N11 VDD15 (power), N12 VDD15 (power), N13 VSS (power), N14 VSS (power), N15 VDD15 (power), N16 VDD15 (power), N17 VDD15 (power), P2 VDDIO7 (power), P10 VDD15 (power), P11 VDD15 (power), P12 VDD15 (power), P13 VSS (power), P14 VSS (power), P15 VDD15 (power), P16 VDD15 (power), P17 VDD15 (power), P24 VDDIO3 (power), R10 VSS (power), R11 VSS (power), R12 VSS (power), R13 VDD15 (power), R14 VDD15 (power), R15 VSS (power), R16 VSS (power), R17 VSS (power), T3 VDDIO7 (power), T10 VSS (power), T11 VSS (power), T12 VSS (power), T13 VDD15 (power), T14 VDD15 (power), T15 VSS (power), T16 VSS (power), T17 VSS (power), U10 VSS (power), U11 VSS (power), U12 VSS (power), U13 VDD15 (power), U14 VDD15 (power), U15 VSS (power), U16 VSS (power), U17 VSS (power), U26 VDDIO3 (power), W26 VDDIO3 (power)

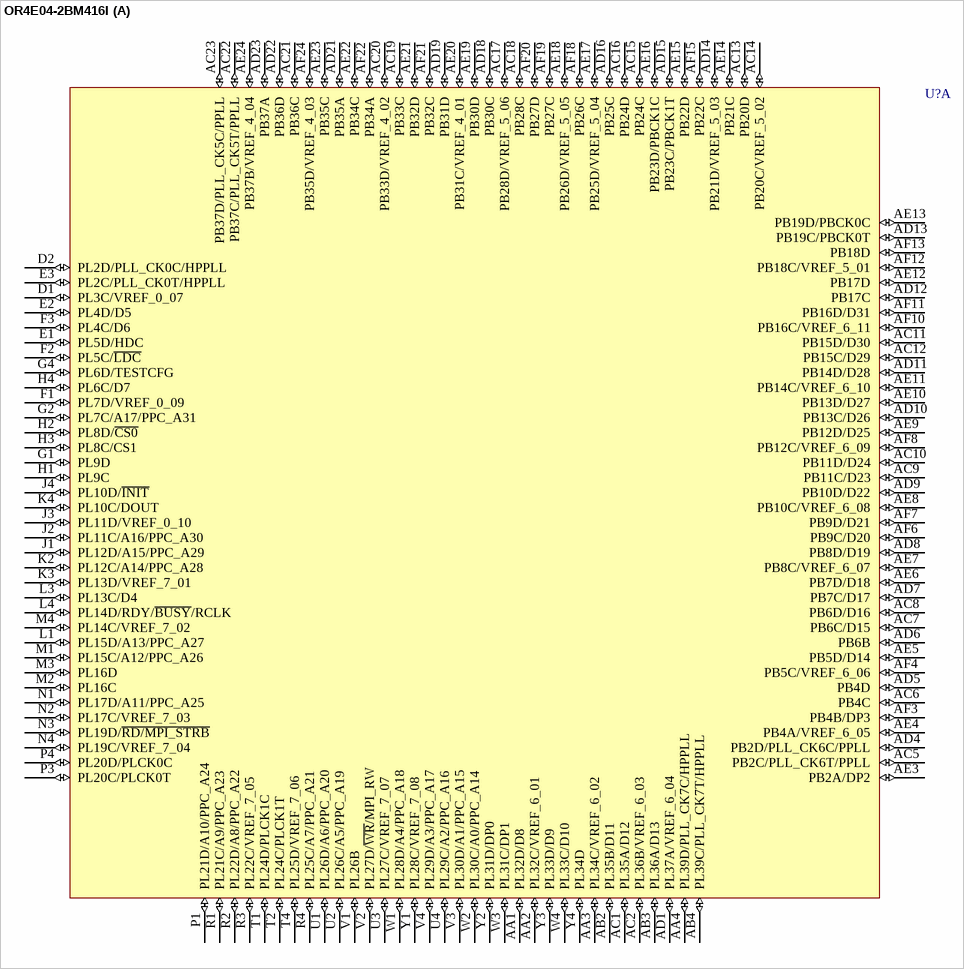
[diagram p75: symbol OR4E04-2BM416I]

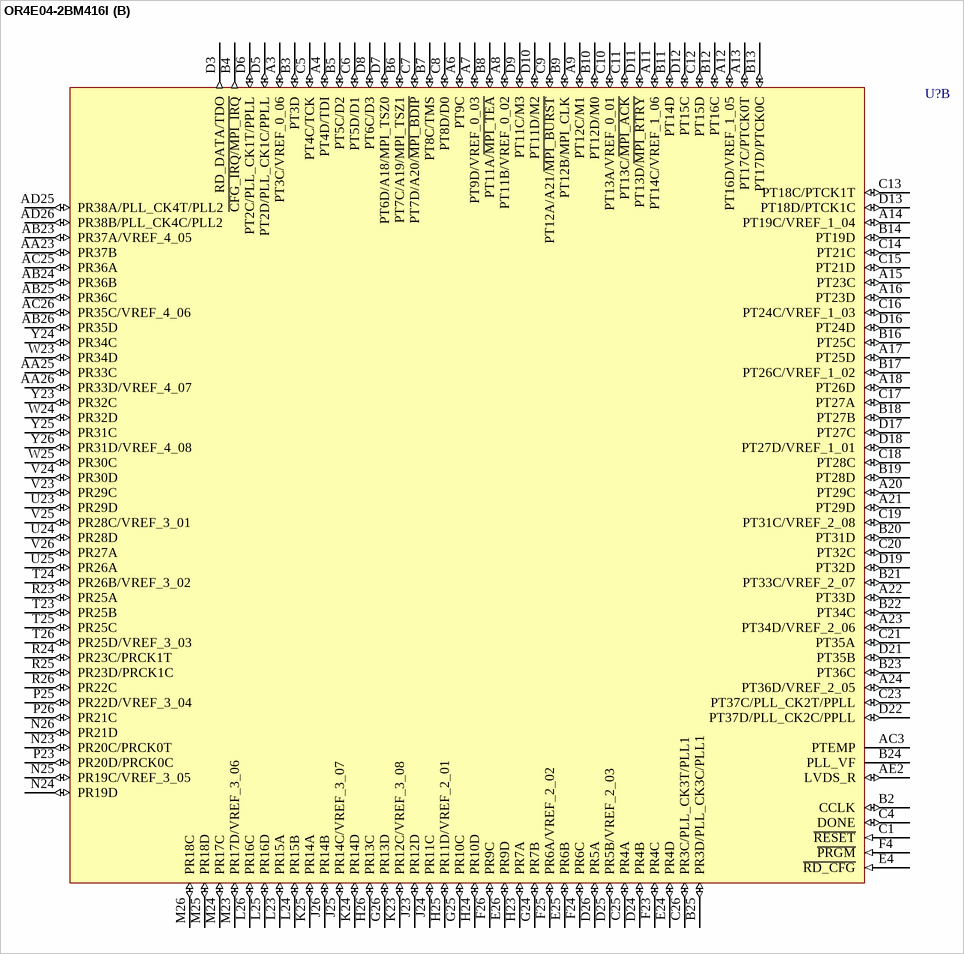
[diagram p76: symbol OR4E04-2BM416I]

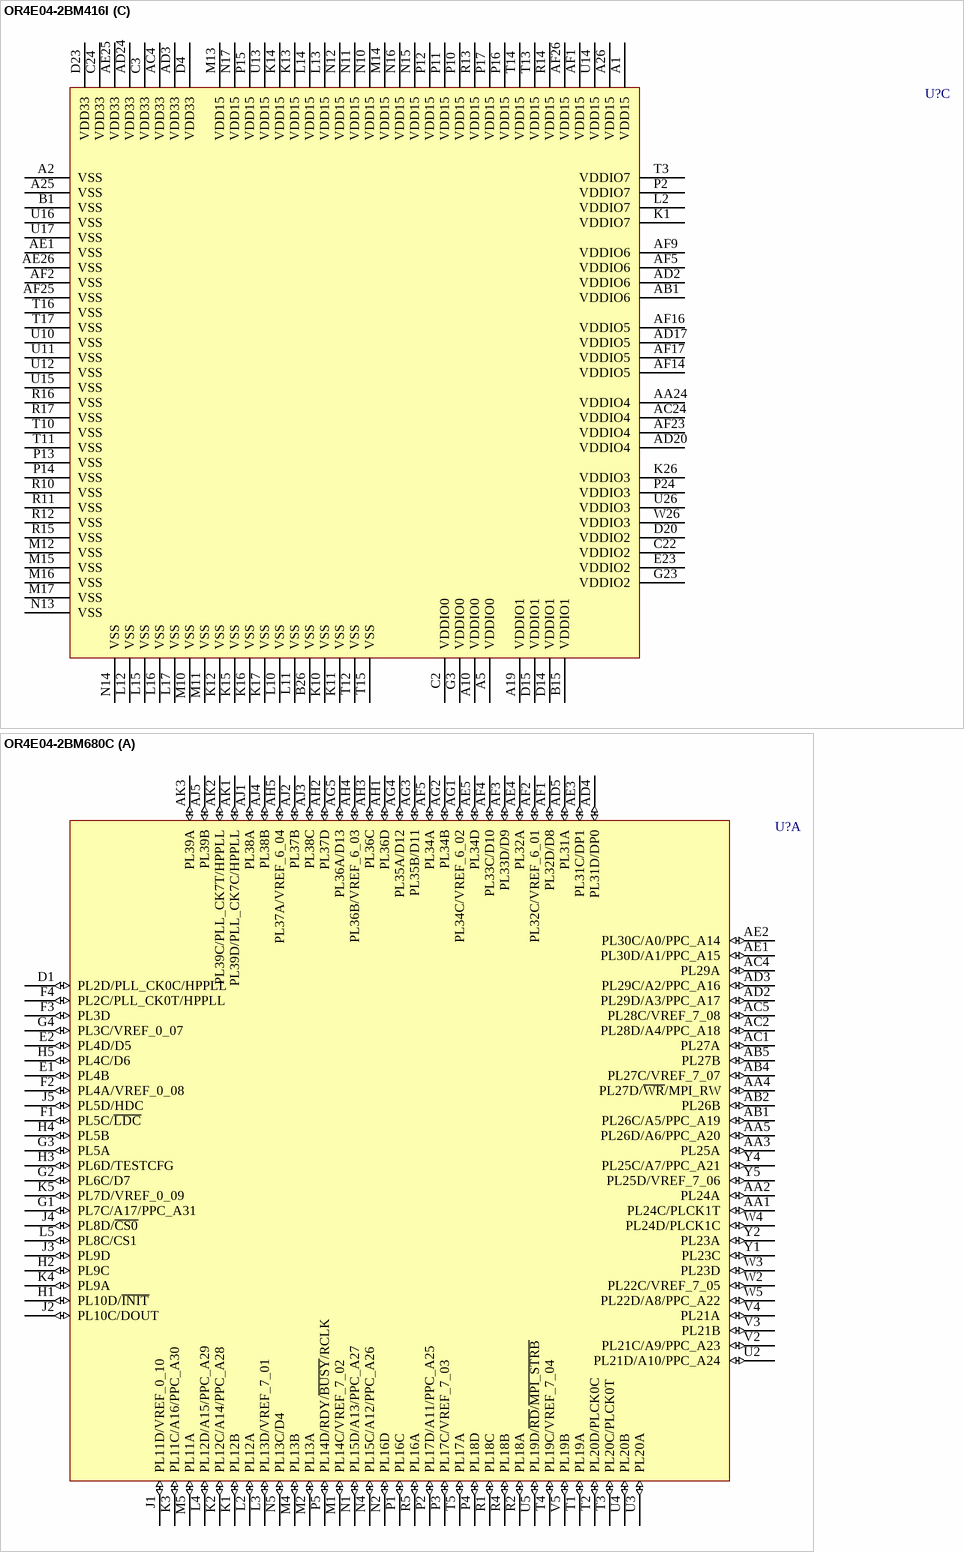
[diagram p77: symbols OR4E04-2BM416I to OR4E04-2BM680C]

## OR4E04-2BM416I
designator U?
ORCA Series 4 FPGA: 1.5 V, Industrial Grade, 466 I/Os.; Published: 21-May-2003; LatestRevisionDate: 13-Apr-2006; LatestRevisionNote: IPC-7351 Footprint Added.; DatasheetVersion: Aug-2003; PackageVersion: pkg_32, Aug-2005; PackageReference: fpBGA416; Publisher: Altium Limited; PackageDescription: 416-Ball Fine Pitch Ball Grid Array (fpBGA416); ComponentLink1Description: Manufacturer Link; ComponentLink1URL: http://www.latticesemi.com/products/fpga/orca/orca4/index.cfm; ComponentLink2Description: Datasheet; ComponentLink2URL: http://www.latticesemi.com/account/_download.cfm?AMID=3970; ComponentLink3Description: Lattice Login; ComponentLink3URL: http://www.latticesemi.com/account/login.cfm
footprint fpBGA416 (BGA, 416-Leads, Body 27x27mm, Pitch 1mm)
3D model OR4E04-fpBGA416 (416-Ball Fine Pitch Ball Grid Array (fpBGA416))
part A pins: AA1 PL32D/D8 (io), AA2 PL32C/VREF_6_01 (io), AA3 PL34C/VREF_6_02 (io), AA4 PL39D/PLL_CK7C/HPPLL (io), AB2 PL35B/D11 (io), AB3 PL36A/D13 (io), AB4 PL39C/PLL_CK7T/HPPLL (io), AC1 PL35A/D12 (io), AC2 PL36B/VREF_6_03 (io), AC5 PB2C/PLL_CK6T/PPLL (io), AC6 PB4C (io), AC7 PB6C/D15 (io), AC8 PB6D/D16 (io), AC9 PB11C/D23 (io), AC10 PB11D/D24 (io), AC11 PB15D/D30 (io), AC12 PB15C/D29 (io), AC13 PB20D (io), AC14 PB20C/VREF_5_02 (io), AC15 PB24C (io), AC16 PB24D (io), AC17 PB28D/VREF_5_06 (io), AC18 PB28C (io), AC19 PB33C (io), AC20 PB33D/VREF_4_02 (io), AC21 PB36C (io), AC22 PB37C/PLL_CK5T/PPLL (io), AC23 PB37D/PLL_CK5C/PPLL (io), AD1 PL37A/VREF_6_04 (io), AD4 PB2D/PLL_CK6C/PPLL (io), AD5 PB4D (io), AD6 PB6B (io), AD7 PB7C/D17 (io), AD8 PB8D/D19 (io), AD9 PB10D/D22 (io), AD10 PB13C/D26 (io), AD11 PB14D/D28 (io), AD12 PB17C (io), AD13 PB19C/PBCK0T (io), AD14 PB21D/VREF_5_03 (io), AD15 PB23C/PBCK1T (io), AD16 PB25C (io), AD18 PB30C (io), AD19 PB31D (io), AD21 PB35A (io), AD22 PB36D (io), AD23 PB37A (io), AE3 PB2A/DP2 (io), AE4 PB4A/VREF_6_05 (io), AE5 PB5D/D14 (io), AE6 PB7D/D18 (io), AE7 PB8C/VREF_6_07 (io), AE8 PB10C/VREF_6_08 (io), AE9 PB12D/D25 (io), AE10 PB13D/D27 (io), AE11 PB14C/VREF_6_10 (io), AE12 PB17D (io), AE13 PB19D/PBCK0C (io), AE14 PB21C (io), AE15 PB22D (io), AE16 PB23D/PBCK1C (io), AE17 PB25D/VREF_5_04 (io), AE18 PB26D/VREF_5_05 (io), AE19 PB30D (io), AE20 PB31C/VREF_4_01 (io), AE21 PB32D (io), AE22 PB34C (io), AE23 PB35C (io), AE24 PB37B/VREF_4_04 (io), AF3 PB4B/DP3 (io), AF4 PB5C/VREF_6_06 (io), AF6 PB9C/D20 (io), AF7 PB9D/D21 (io), AF8 PB12C/VREF_6_09 (io), AF10 PB16C/VREF_6_11 (io), AF11 PB16D/D31 (io), AF12 PB18C/VREF_5_01 (io), AF13 PB18D (io), AF15 PB22C (io), AF18 PB26C (io), AF19 PB27C (io), AF20 PB27D (io), AF21 PB32C (io), AF22 PB34A (io), AF24 PB35D/VREF_4_03 (io), D1 PL3C/VREF_0_07 (io), D2 PL2D/PLL_CK0C/HPPLL (io), E1 PL5D/HDC (io), E2 PL4D/D5 (io), E3 PL2C/PLL_CK0T/HPPLL (io), F1 PL7D/VREF_0_09 (io), F2 PL5C/~{LDC} (io), F3 PL4C/D6 (io), G1 PL9D (io), G2 PL7C/A17/PPC_A31 (io), G4 PL6D/TESTCFG (io), H1 PL9C (io), H2 PL8D/~{CS0} (io), H3 PL8C/CS1 (io), H4 PL6C/D7 (io), J1 PL12D/A15/PPC_A29 (io), J2 PL11C/A16/PPC_A30 (io), J3 PL11D/VREF_0_10 (io), J4 PL10D/~{INIT} (io), K2 PL12C/A14/PPC_A28 (io), K3 PL13D/VREF_7_01 (io), K4 PL10C/DOUT (io), L1 PL15D/A13/PPC_A27 (io), L3 PL13C/D4 (io), L4 PL14D/RDY/~{BUSY}/RCLK (io), M1 PL15C/A12/PPC_A26 (io), M2 PL16C (io), M3 PL16D (io), M4 PL14C/VREF_7_02 (io), N1 PL17D/A11/PPC_A25 (io), N2 PL17C/VREF_7_03 (io), N3 PL19D/~{RD/MPI_STRB} (io), N4 PL19C/VREF_7_04 (io), P1 PL21D/A10/PPC_A24 (io), P3 PL20C/PLCK0T (io), P4 PL20D/PLCK0C (io), R1 PL21C/A9/PPC_A23 (io), R2 PL22D/A8/PPC_A22 (io), R3 PL22C/VREF_7_05 (io), R4 PL25C/A7/PPC_A21 (io), T1 PL24D/PLCK1C (io), T2 PL24C/PLCK1T (io), T4 PL25D/VREF_7_06 (io), U1 PL26D/A6/PPC_A20 (io), U2 PL26C/A5/PPC_A19 (io), U3 PL27C/VREF_7_07 (io), U4 PL29C/A2/PPC_A16 (io), V1 PL26B (io), V2 PL27D/~{WR}/MPI_RW (io), V3 PL30D/A1/PPC_A15 (io), V4 PL29D/A3/PPC_A17 (io), W1 PL28D/A4/PPC_A18 (io), W2 PL30C/A0/PPC_A14 (io), W3 PL31C/DP1 (io), W4 PL33C/D10 (io), Y1 PL28C/VREF_7_08 (io), Y2 PL31D/DP0 (io), Y3 PL33D/D9 (io), Y4 PL34D (io)
part B pins: A3 PT3C/VREF_0_06 (io), A4 PT4D/TDI (io), A6 PT9C (io), A7 PT9D/VREF_0_03 (io), A8 PT11B/VREF_0_02 (io), A9 PT12C/M1 (io), A11 PT14C/VREF_1_06 (io), A12 PT16D/VREF_1_05 (io), A13 PT17C/PTCK0T (io), A14 PT19C/VREF_1_04 (io), A15 PT23C (io), A16 PT23D (io), A17 PT25D (io), A18 PT26D (io), A20 PT29C (io), A21 PT29D (io), A22 PT33D (io), A23 PT34D/VREF_2_06 (io), A24 PT36D/VREF_2_05 (io), AA23 PR37B (io), AA25 PR33C (io), AA26 PR33D/VREF_4_07 (io), AB23 PR37A/VREF_4_05 (io), AB24 PR36B (io), AB25 PR36C (io), AB26 PR35D (io), AC3 PTEMP, AC25 PR36A (io), AC26 PR35C/VREF_4_06 (io), AD25 PR38A/PLL_CK4T/PLL2 (io), AD26 PR38B/PLL_CK4C/PLL2 (io), AE2 LVDS_R (io), B2 CCLK (io), B3 PT3D (io), B4 ~{CFG_IRQ/MPI_IRQ} (out), B5 PT5C/D2 (io), B6 PT7C/A19/MPI_TSZ1 (io), B7 PT8C/TMS (io), B8 PT11A/~{MPI_TEA} (io), B9 PT12B/MPI_CLK (io), B10 PT12D/M0 (io), B11 PT14D (io), B12 PT16C (io), B13 PT17D/PTCK0C (io), B14 PT19D (io), B16 PT25C (io), B17 PT26C/VREF_1_02 (io), B18 PT27B (io), B19 PT28D (io), B20 PT31D (io), B21 PT33C/VREF_2_07 (io), B22 PT34C (io), B23 PT36C (io), B24 PLL_VF, B25 PR3D/PLL_CK3C/PLL1 (io), C1 ~{RESET} (in), C4 DONE (io), C5 PT4C/TCK (io), C6 PT5D/D1 (io), C7 PT7D/A20/~{MPI_BDIP} (io), C8 PT8D/D0 (io), C9 PT12A/A21/~{MPI_BURST} (io), C10 PT13A/VREF_0_01 (io), C11 PT13C/~{MPI_ACK} (io), C12 PT15D (io), C13 PT18C/PTCK1T (io), C14 PT21C (io), C15 PT21D (io), C16 PT24C/VREF_1_03 (io), C17 PT27A (io), C18 PT28C (io), C19 PT31C/VREF_2_08 (io), C20 PT32C (io), C21 PT35A (io), C23 PT37C/PLL_CK2T/PPLL (io), C25 PR4A (io), C26 PR3C/PLL_CK3T/PLL1 (io), D3 RD_DATA/TDO (out), D5 PT2D/PLL_CK1C/PPLL (io), D6 PT2C/PLL_CK1T/PPLL (io), D7 PT6D/A18/MPI_TSZ0 (io), D8 PT6C/D3 (io), D9 PT11C/M3 (io), D10 PT11D/M2 (io), D11 PT13D/~{MPI_RTRY} (io), D12 PT15C (io), D13 PT18D/PTCK1C (io), D16 PT24D (io), D17 PT27C (io), D18 PT27D/VREF_1_01 (io), D19 PT32D (io), D21 PT35B (io), D22 PT37D/PLL_CK2C/PPLL (io), D24 PR4B (io), D25 PR5B/VREF_2_03 (io), D26 PR5A (io), E4 ~{RD_CFG} (in), E24 PR4D (io), E25 PR6B (io), E26 PR9D (io), F4 ~{PRGM} (in), F23 PR4C (io), F24 PR6C (io), F25 PR6A/VREF_2_02 (io), F26 PR9C (io), G24 PR7B (io), G25 PR10C (io), G26 PR13D (io), H23 PR7A (io), H24 PR10D (io), H25 PR11D/VREF_2_01 (io), H26 PR13C (io), J23 PR12D (io), J24 PR11C (io), J25 PR14C/VREF_3_07 (io), J26 PR14B (io), K23 PR12C/VREF_3_08 (io), K24 PR14D (io), K25 PR14A (io), L23 PR15A (io), L24 PR15B (io), L25 PR16D (io), L26 PR16C (io), M23 PR17D/VREF_3_06 (io), M24 PR17C (io), M25 PR18D (io), M26 PR18C (io), N23 PR20C/PRCK0T (io), N24 PR19D (io), N25 PR19C/VREF_3_05 (io), N26 PR21D (io), P23 PR20D/PRCK0C (io), P25 PR22D/VREF_3_04 (io), P26 PR21C (io), R23 PR25A (io), R24 PR23C/PRCK1T (io), R25 PR23D/PRCK1C (io), R26 PR22C (io), T23 PR25B (io), T24 PR26B/VREF_3_02 (io), T25 PR25C (io), T26 PR25D/VREF_3_03 (io), U23 PR29D (io), U24 PR28D (io), U25 PR26A (io), V23 PR29C (io), V24 PR30D (io), V25 PR28C/VREF_3_01 (io), V26 PR27A (io), W23 PR34D (io), W24 PR32D (io), W25 PR30C (io), Y23 PR32C (io), Y24 PR34C (io), Y25 PR31C (io), Y26 PR31D/VREF_4_08 (io)
part C pins: A1 VDD15 (power), A2 VSS (power), A5 VDDIO0 (power), A10 VDDIO0 (power), A19 VDDIO1 (power), A25 VSS (power), A26 VDD15 (power), AA24 VDDIO4 (power), AB1 VDDIO6 (power), AC4 VDD33 (power), AC24 VDDIO4 (power), AD2 VDDIO6 (power), AD3 VDD33 (power), AD17 VDDIO5 (power), AD20 VDDIO4 (power), AD24 VDD33 (power), AE1 VSS (power), AE25 VDD33 (power), AE26 VSS (power), AF1 VDD15 (power), AF2 VSS (power), AF5 VDDIO6 (power), AF9 VDDIO6 (power), AF14 VDDIO5 (power), AF16 VDDIO5 (power), AF17 VDDIO5 (power), AF23 VDDIO4 (power), AF25 VSS (power), AF26 VDD15 (power), B1 VSS (power), B15 VDDIO1 (power), B26 VSS (power), C2 VDDIO0 (power), C3 VDD33 (power), C22 VDDIO2 (power), C24 VDD33 (power), D4 VDD33 (power), D14 VDDIO1 (power), D15 VDDIO1 (power), D20 VDDIO2 (power), D23 VDD33 (power), E23 VDDIO2 (power), G3 VDDIO0 (power), G23 VDDIO2 (power), K1 VDDIO7 (power), K10 VSS (power), K11 VSS (power), K12 VSS (power), K13 VDD15 (power), K14 VDD15 (power), K15 VSS (power), K16 VSS (power), K17 VSS (power), K26 VDDIO3 (power), L2 VDDIO7 (power), L10 VSS (power), L11 VSS (power), L12 VSS (power), L13 VDD15 (power), L14 VDD15 (power), L15 VSS (power), L16 VSS (power), L17 VSS (power), M10 VSS (power), M11 VSS (power), M12 VSS (power), M13 VDD15 (power), M14 VDD15 (power), M15 VSS (power), M16 VSS (power), M17 VSS (power), N10 VDD15 (power), N11 VDD15 (power), N12 VDD15 (power), N13 VSS (power), N14 VSS (power), N15 VDD15 (power), N16 VDD15 (power), N17 VDD15 (power), P2 VDDIO7 (power), P10 VDD15 (power), P11 VDD15 (power), P12 VDD15 (power), P13 VSS (power), P14 VSS (power), P15 VDD15 (power), P16 VDD15 (power), P17 VDD15 (power), P24 VDDIO3 (power), R10 VSS (power), R11 VSS (power), R12 VSS (power), R13 VDD15 (power), R14 VDD15 (power), R15 VSS (power), R16 VSS (power), R17 VSS (power), T3 VDDIO7 (power), T10 VSS (power), T11 VSS (power), T12 VSS (power), T13 VDD15 (power), T14 VDD15 (power), T15 VSS (power), T16 VSS (power), T17 VSS (power), U10 VSS (power), U11 VSS (power), U12 VSS (power), U13 VDD15 (power), U14 VDD15 (power), U15 VSS (power), U16 VSS (power), U17 VSS (power), U26 VDDIO3 (power), W26 VDDIO3 (power)

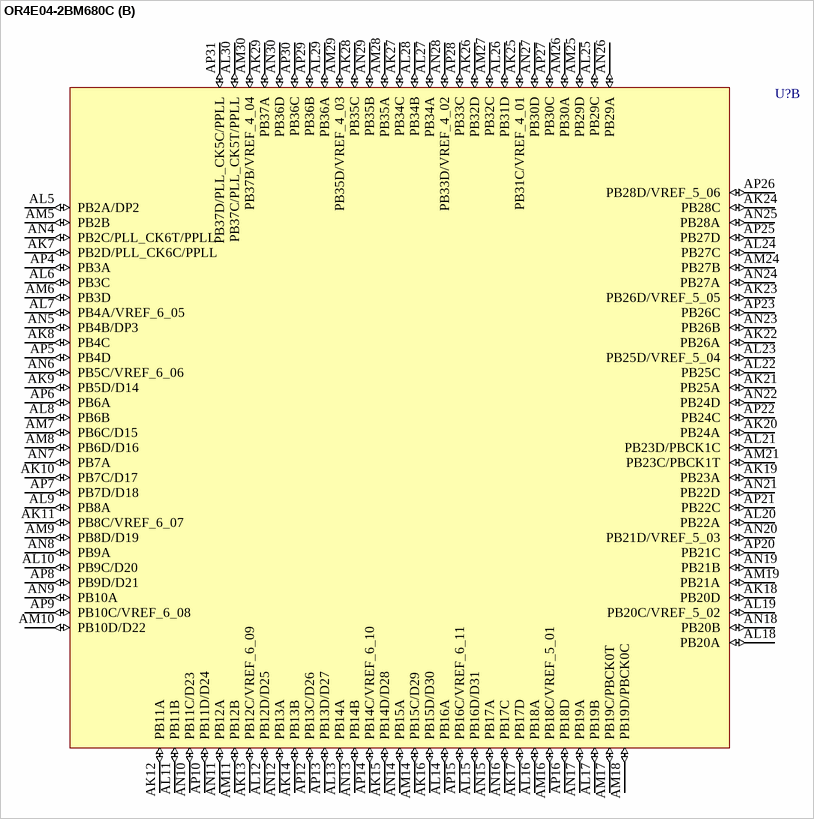
[diagram p78: symbol OR4E04-2BM680C]

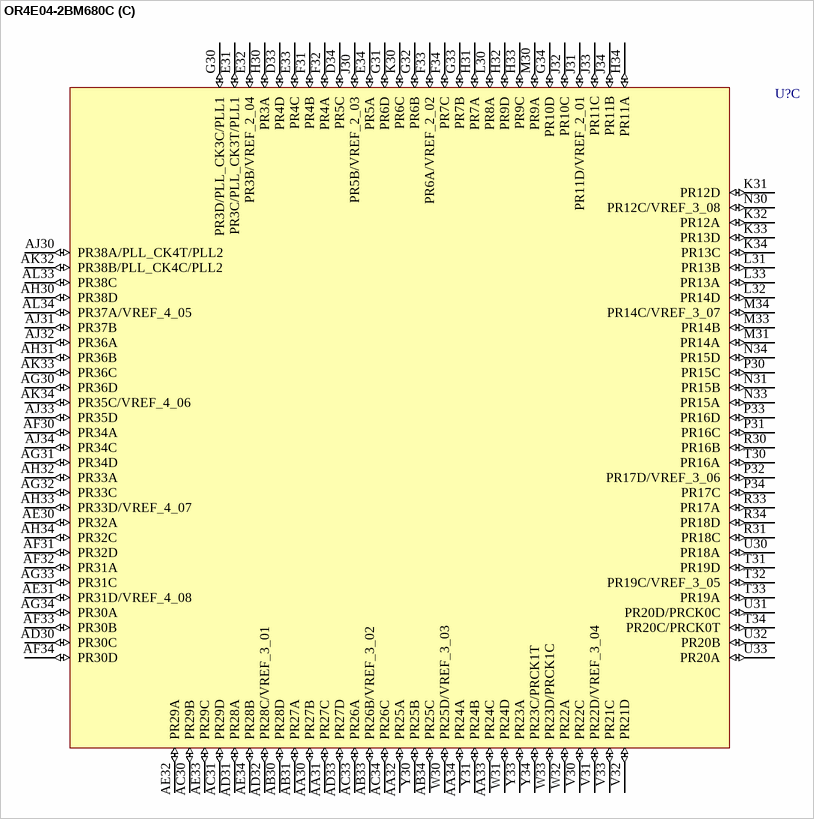
[diagram p79: symbol OR4E04-2BM680C]

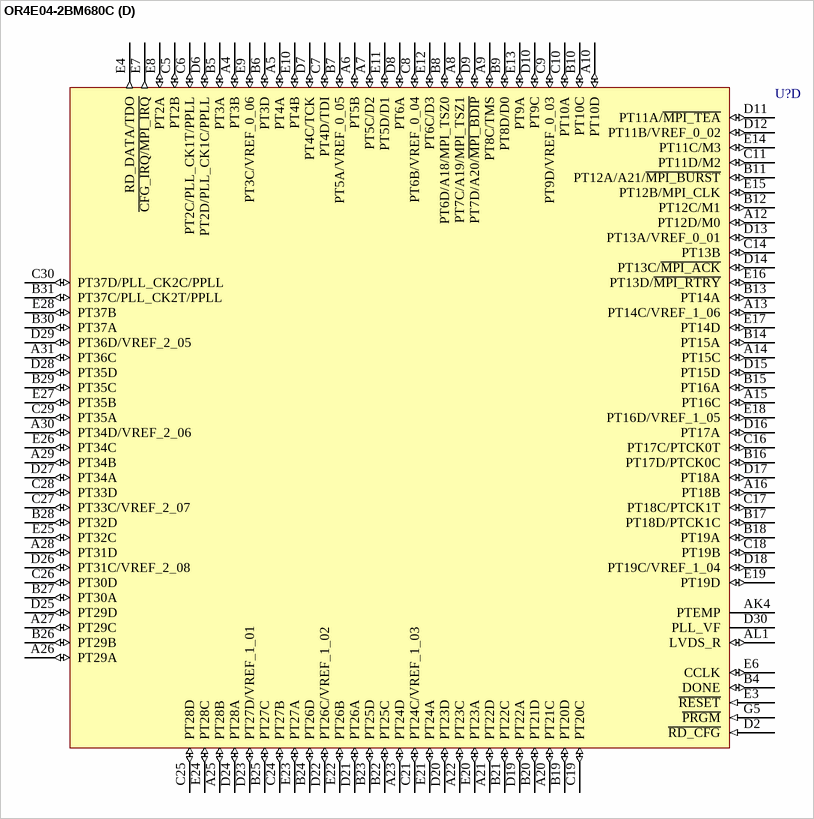
[diagram p80: symbol OR4E04-2BM680C]

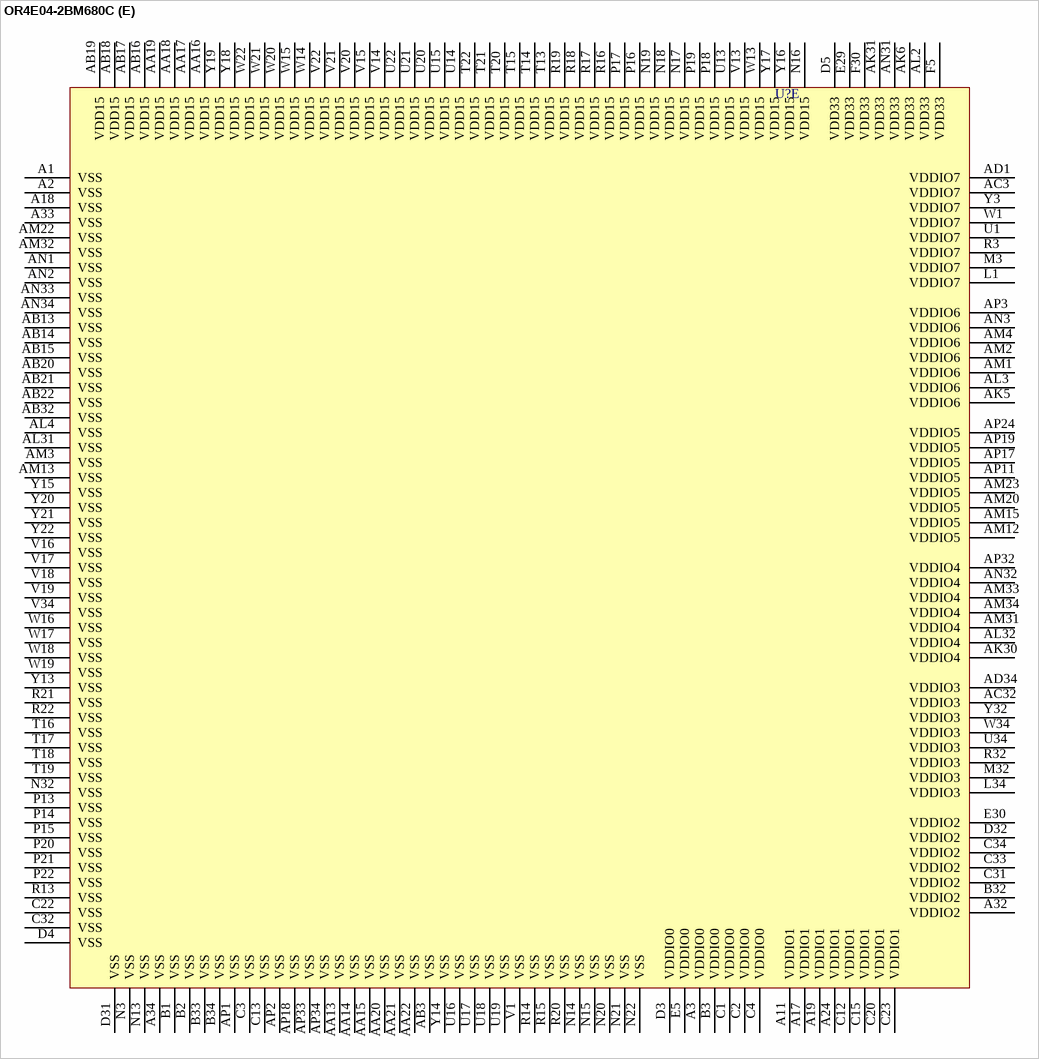
[diagram p81: symbol OR4E04-2BM680C]